# Altium schematic symbol library Switch-Electrical.SchLib: 3 symbols
Pins are listed as number, name and electrical type; pins without a type are passive.

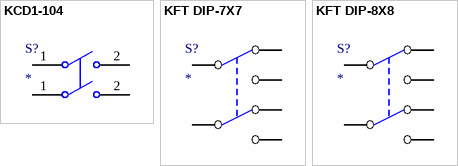
[diagram p0: symbols KCD1-104 to KFT DIP-8X8]

## KCD1-104
designator S?
船型开关
footprint KCD1-104-W
pins: 1, 1, 2, 2

## KFT DIP-7X7
designator S?
按键开关
footprint KFT DIP-7X7
pins: 1, 2, 3, 4, 5, 6

## KFT DIP-8X8
designator S?
按键开关
footprint KFT DIP-8X8
pins: 1, 2, 3, 4, 5, 6